# EAGLE library part MP28164GD-P (library MP28164GD-P)
Switching Voltage Regulators Hi Eff Sngl Inductor Buck-Boost Converter Source: Datasheet <https://componentsearchengine.com/Datasheets/1/MP28164GD-P.pdf>
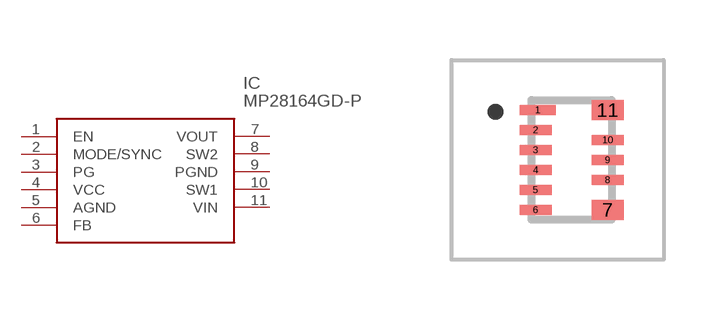
[diagram p0: symbol with the pads of MP28164GDP; footprint MP28164GDP]

Designator prefix IC

## MP28164GD-P (Description: Switching Voltage Regulators Hi Eff Sngl Inductor Buck-Boost Converter; Height: 1mm; Manufacturer_Name: Monolithic Power Systems (MPS); Manufacturer_Part_Number: MP28164GD-P; Mouser_Part_Number: 946-MP28164GD-P; Mouser_Price-Stock: https://www.mouser.co.uk/ProductDetail/Monolithic-Power-Systems-MPS/MP28164GD-P?qs=BHWkRorfSmXVYcyyqwr4xg%3D%3D)  [MP28164GDP]
1  EN
2  MODE/SYNC
3  PG
4  VCC
5  AGND
6  FB
7  VOUT
8  SW2
9  PGND
10  SW1
11  VIN

## Footprint MP28164GDP (pad centres in mm)
MP28164GD-P-3
smd 0.9 x 0.25: 1 -0.85,1.25
smd 0.8 x 0.25: 2 -0.9,0.75; 3 -0.9,0.25; 4 -0.9,-0.25; 5 -0.9,-0.75; 6 -0.9,-1.25; 8 0.9,-0.5; 9 0.9,0; 10 0.9,0.5
smd 0.8 x 0.5: 7 0.9,-1.25; 11 0.9,1.25